# Altium schematic symbol library REF3450TIDBVR.SchLib: 1 symbol
Pins are listed as number, name and electrical type; pins without a type are passive.

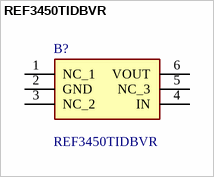
[diagram p0: symbol REF3450TIDBVR]

## REF3450TIDBVR
designator B?
Voltage References 5-V, low-drift, low-power, small-footprint series voltage reference; Manufacturer_Name: Texas Instruments; Geometry.Height: 1.45mm; Mouser Part Number: 595-REF3450TIDBVR; Mouser Price/Stock: https://www.mouser.co.uk/ProductDetail/Texas-Instruments/REF3450TIDBVR?qs=QNEnbhJQKvaJ9wk9nNLvXA%3D%3D; Manufacturer_Part_Number: REF3450TIDBVR; Datasheet Link: https://www.ti.com/lit/ds/symlink/ref3450.pdf?ts=1625451766832&ref_url=https%253A%252F%252Fwww.ti.com%252Fsitesearch%252Fdocs%252Funiversalsearch.tsp%253FlangPref%253Den-US%2526searchTerm%253DREF3450TIDBVR%2526nr%253D7
footprint SOT95P280X145-6N
pins: 1 NC_1, 2 GND, 3 NC_2, 4 IN, 5 NC_3, 6 VOUT